# EAGLE library part MEGA162* (library atmel)
8-bit Microcontroller 16K Bytes In-System Programmable Flash
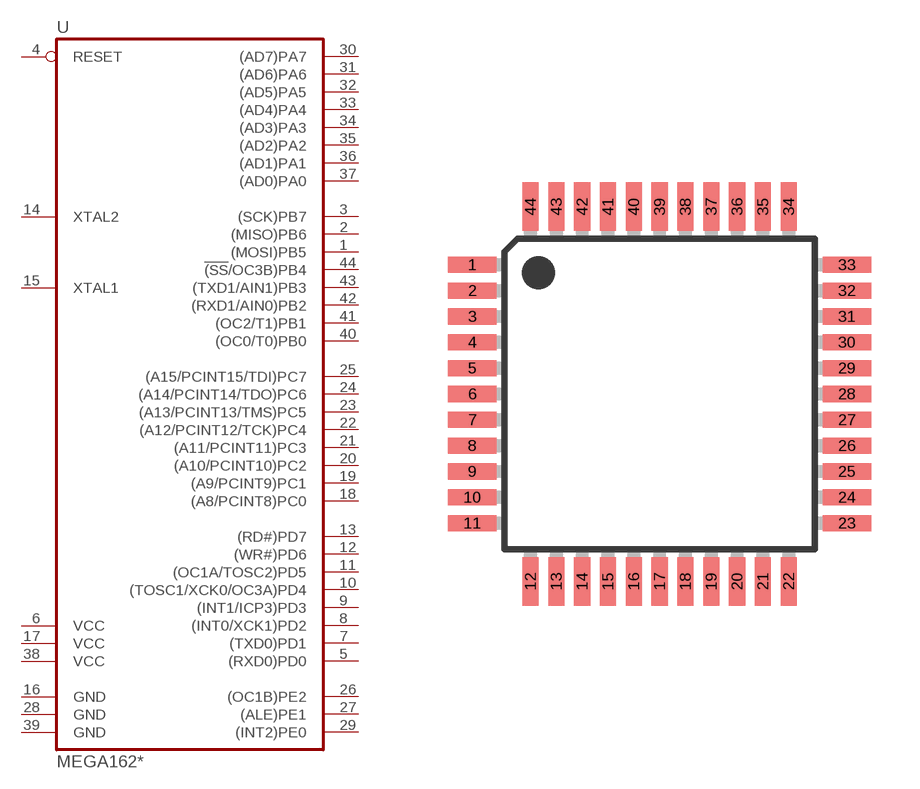
[diagram p54: symbol with the pads of TQFP44; footprint TQFP44]

Designator prefix U

## MEGA162-AU, MEGA162V-AU  [TQFP44]
1  (MOSI)PB5
2  (MISO)PB6
3  (SCK)PB7
4  RESET  in
5  (RXD0)PD0
6  VCC  pwr
7  (TXD0)PD1
8  (INT0/XCK1)PD2
9  (INT1/ICP3)PD3
10  (TOSC1/XCK0/OC3A)PD4
11  (OC1A/TOSC2)PD5
12  (WR#)PD6
13  (RD#)PD7
14  XTAL2  in
15  XTAL1  in
16  GND  pwr
17  VCC  pwr
18  (A8/PCINT8)PC0
19  (A9/PCINT9)PC1
20  (A10/PCINT10)PC2
21  (A11/PCINT11)PC3
22  (A12/PCINT12/TCK)PC4
23  (A13/PCINT13/TMS)PC5
24  (A14/PCINT14/TDO)PC6
25  (A15/PCINT15/TDI)PC7
26  (OC1B)PE2
27  (ALE)PE1
28  GND  pwr
29  (INT2)PE0
30  (AD7)PA7
31  (AD6)PA6
32  (AD5)PA5
33  (AD4)PA4
34  (AD3)PA3
35  (AD2)PA2
36  (AD1)PA1
37  (AD0)PA0
38  VCC  pwr
39  GND  pwr
40  (OC0/T0)PB0
41  (OC2/T1)PB1
42  (RXD1/AIN0)PB2
43  (TXD1/AIN1)PB3
44  !(SS!/OC3B)PB4

## Footprint TQFP44 (pad centres in mm)
Thin Plasic Quad Flat Package
smd 1.5 x 0.5: 1 -5.8,4; 2 -5.8,3.2; 3 -5.8,2.4; 4 -5.8,1.6; 5 -5.8,0.8; 6 -5.8,0; 7 -5.8,-0.8; 8 -5.8,-1.6; 9 -5.8,-2.4; 10 -5.8,-3.2; 11 -5.8,-4; 23 5.8,-4; 24 5.8,-3.2; 25 5.8,-2.4; 26 5.8,-1.6; 27 5.8,-0.8; 28 5.8,0; 29 5.8,0.8; 30 5.8,1.6; 31 5.8,2.4; 32 5.8,3.2; 33 5.8,4
smd 0.5 x 1.5: 12 -4,-5.8; 13 -3.2,-5.8; 14 -2.4,-5.8; 15 -1.6,-5.8; 16 -0.8,-5.8; 17 0,-5.8; 18 0.8,-5.8; 19 1.6,-5.8; 20 2.4,-5.8; 21 3.2,-5.8; 22 4,-5.8; 34 4,5.8; 35 3.2,5.8; 36 2.4,5.8; 37 1.6,5.8; 38 0.8,5.8; 39 0,5.8; 40 -0.8,5.8; 41 -1.6,5.8; 42 -2.4,5.8; 43 -3.2,5.8; 44 -4,5.8